# Altium footprint library Connectors Molex.PcbLib: 1 footprints
Each footprint in its own frame and in the unit in brackets; x right, y up, seen from the top. Pads: shape width x height; smd on the part's side, far side on the other; paste and mask are expansions set on the pad; w line width, h text height; cw(c..) or ccw(c..) is an arc to the next point about the centre after c.
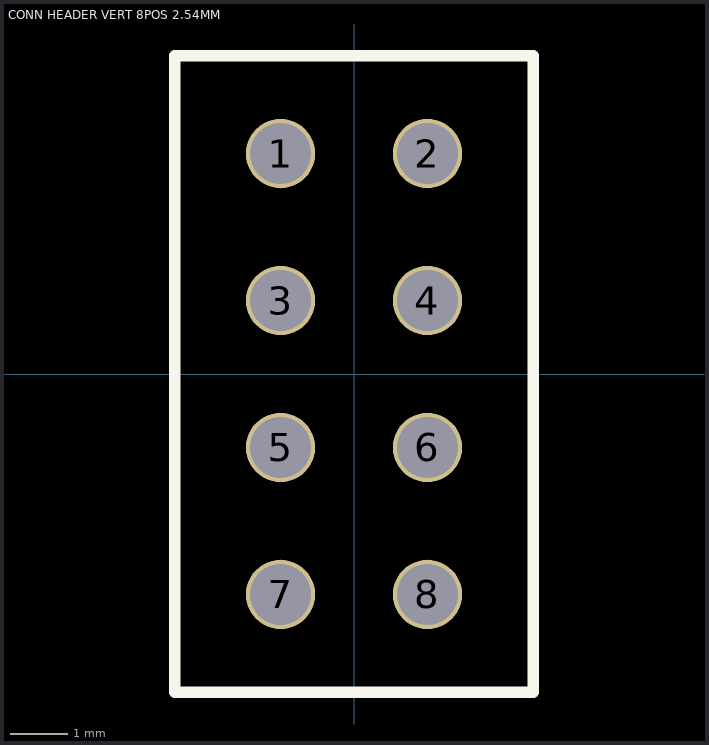
[diagram p0: the footprint, top view; thin cyan lines are the x and y axes]

## CONN HEADER VERT 8POS 2.54MM [mm]
pads (8):
  round 1.2 hole 1.05: 1(-1.27,3.81) 2(1.27,3.81) 3(-1.27,1.27) 4(1.27,1.27) 5(-1.27,-1.27) 6(1.27,-1.27) 7(-1.27,-3.81) 8(1.27,-3.81)
Top Overlay:
  lines w0.2: -3.1,-5.5 3.1,-5.5 3.1,5.5 -3.1,5.5 -3.1,-5.5
3D body "90131-0924.stp": height 5.4, standoff -6.75, extent -2.515,-5.08 2.565,5.08